# Altium footprint library E 二极管.PcbLib: 24 footprints (part 1 of 2)
Each footprint in its own frame and in the unit in brackets; x right, y up, seen from the top. Pads: shape width x height; smd on the part's side, far side on the other; paste and mask are expansions set on the pad; w line width, h text height; cw(c..) or ccw(c..) is an arc to the next point about the centre after c.
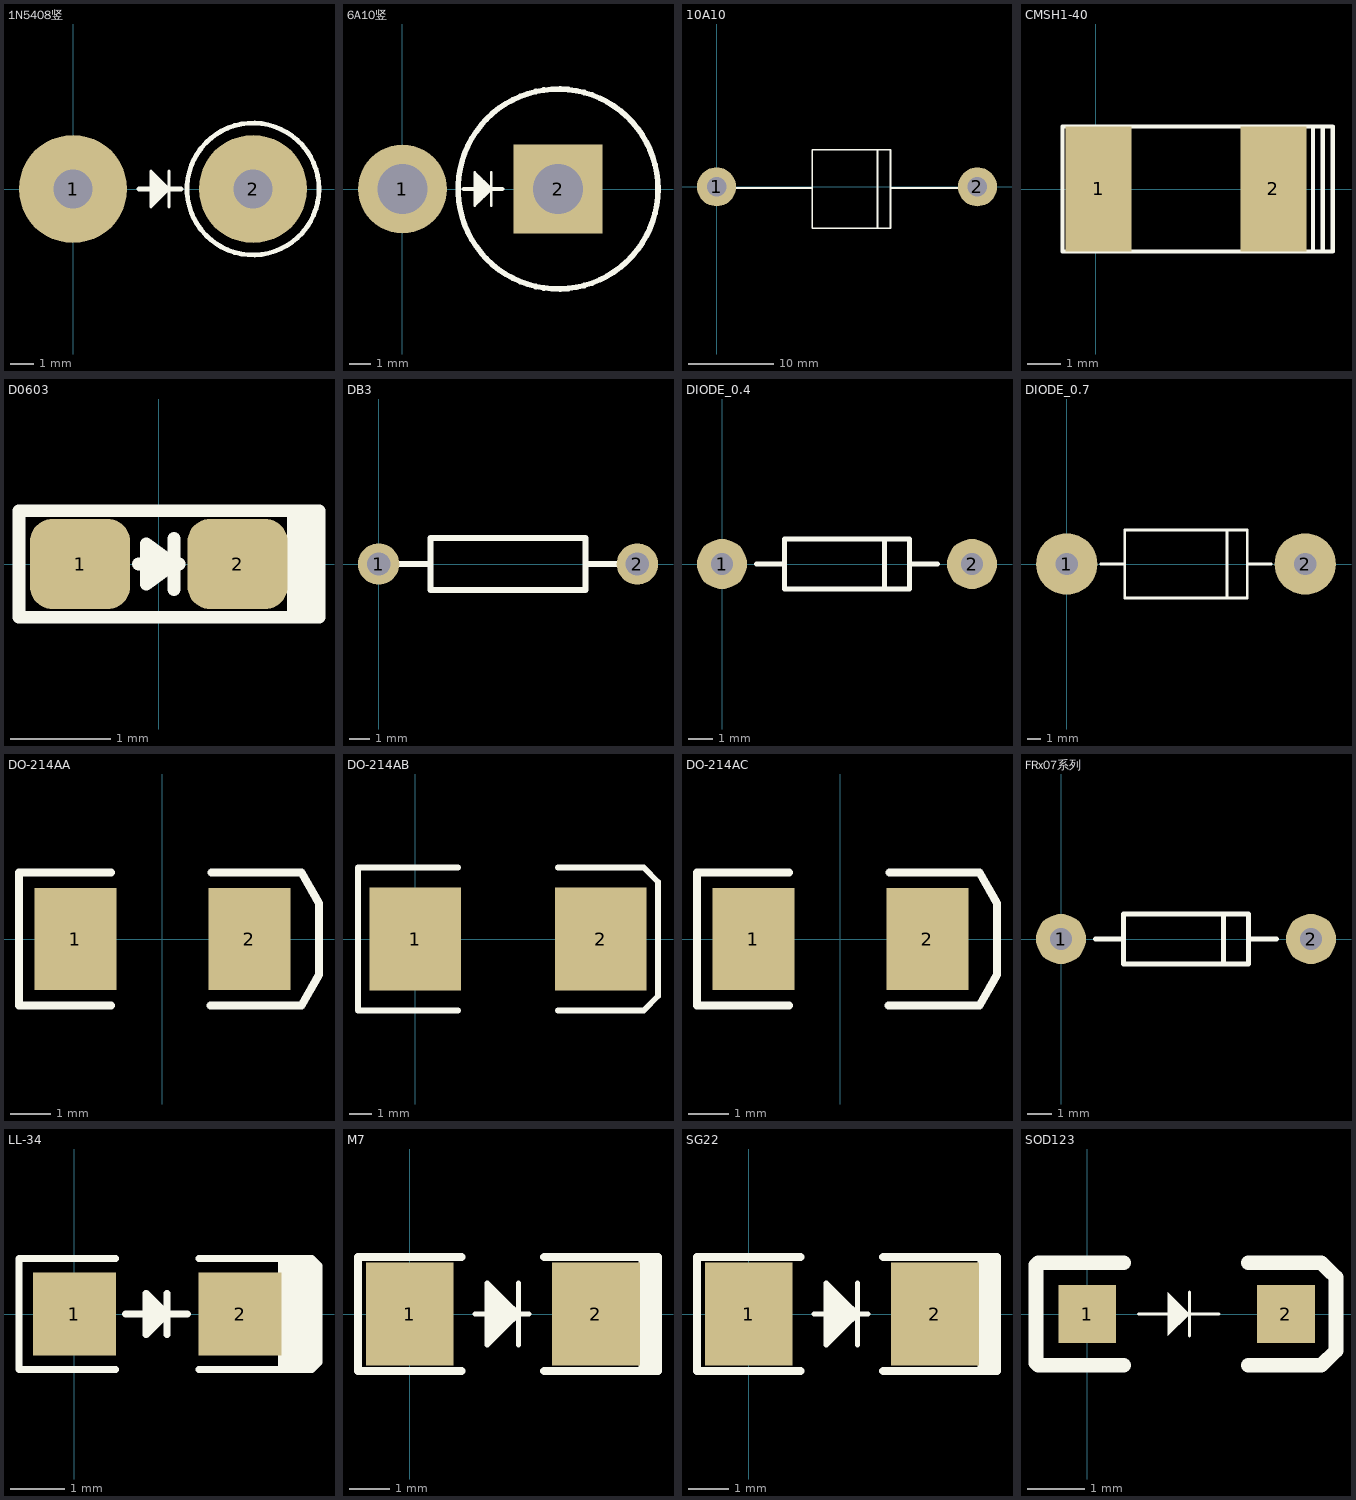
[diagram p0: the footprints below, top view; thin cyan lines are the x and y axes]

## 1N5408竖 [mil]
pads (2):
  round 180 hole 65: 1(0,0) 2(300,0)
Top Overlay:
  circle w8: c300,0 r110
  lines w5: 130,-22 138,-22 ; 130,-18 142,-18 ; 130,-14 146,-14 ; 130,-10 150,-10 ; 130,-6 153.99,-6 ; 130,6 153.99,6 ; 130,10 150,10 ; 130,14 146,14 ; 130,18 142,18 ; 130,22 138,22 ; 160,-30 160,30 ; 153.99,-6 154,-5.98 ; 153.99,6 154,5.98 ; 130,-30 130,30 160,0 130,-30
  lines w8: 110,0 180,0

## 6A10竖 [mil] "二极管"
height 68.9
pads (2):
  round 160 hole 90: 1(0,0)
  rect 160x160 hole 90: 2(280,0)
Top Overlay:
  circle w10: c280,0 r180
  lines w5: 130,-22 138,-22 ; 130,-18 142,-18 ; 130,-14 146,-14 ; 130,-10 150,-10 ; 130,-6 153.99,-6 ; 130,6 153.99,6 ; 130,10 150,10 ; 130,14 146,14 ; 130,18 142,18 ; 130,22 138,22 ; 160,-30 160,30 ; 153.99,-6 154,-5.98 ; 153.99,6 154,5.98 ; 130,-30 130,30 160,0 130,-30
  lines w8: 110,0 180,0

## 10A10 [mil] "二极管"
height 62.99
pads (2):
  round 180 hole 90: 1(0,0) 2(1200,0)
Top Overlay:
  lines w8: 80,-5 440,-5 ; 740,-185 740,170 ; 805,-5 1165,-5 ; 440,-190 800,-190 800,170 440,170 440,-190

## CMSH1-40 [mm]
pads (2):
  rect 2x3.8 smd: 1(0.088,0.005) 2(5.388,0.005)
Top Overlay:
  lines w0.127: 6.588,-1.895 6.588,1.905 ; 6.588,-1.895 -1.012,-1.895 -1.012,1.905 6.588,1.905 ; 6.588,-1.895 6.888,-1.895 ; 6.588,1.905 6.888,1.905 ; 6.888,-1.895 6.888,1.905 ; 6.888,-1.895 7.188,-1.895 7.188,1.905 6.888,1.905

## D0603 [mm] "Chip DIODE; Body 1.6 x 0.8 mm (LxW typ)"
height 0.6
pads (2):
  rrect50% 1x0.9 smd: 1(-0.787,0) 2(0.787,0)
Top Overlay:
  lines w0.127: -0.203,0 0.203,0 ; -0.025,-0.102 -0.025,0.127 ; 0.152,-0.254 0.152,0.254 ; 1.346,-0.533 1.346,0.533 ; 1.397,-0.533 1.397,0.533 ; 1.524,-0.533 1.524,0.533 ; -1.397,-0.533 -1.397,0.533 1.6,0.533 1.6,-0.533 -1.397,-0.533 ; -0.127,-0.203 -0.127,0.203 0.152,0 -0.127,-0.203

## DB3 [mil] "双向二极管"
pads (2):
  round 80 hole 45: 1(0,0) 2(500,0)
Top Overlay:
  lines w12: 40,0 100,0 ; 400,0 460,0 ; 100,-50 100,50 400,50 400,-50 100,-50

## DIODE_0.4 [mil] "二极管"
height 220.47
pads (2):
  round 80 hole 35: 1(0,0) 2(400,0)
Top Overlay:
  lines w8: 55,0 100,0 ; 260,-40 260,40 ; 300,0 345,0 ; 100,-40 300,-40 300,40 100,40 100,-40

## DIODE_0.7 [mil]
pads (2):
  round 180 hole 65: 1(0,0) 2(700,0)
Top Overlay:
  lines w8: 100,0 170,0 ; 470,-100 470,100 ; 530,0 600,0 ; 170,-100 170,100 530,100 530,-100 170,-100

## DO-214AA [mil] "DIODE"
height 905.51
pads (2):
  rect 80x100 smd: 1(-85,0) 2(85,0)
Top Overlay:
  lines w8: -50,-65 -140,-65 -140,65 -50,65 ; 47,-65 136,-65 153,-35 153,35 136,65 48,65

## DO-214AB [mil] "贴片二极管2.5A/1000V"
pads (2):
  rect 160x180 smd: 1(0,0) 2(325,0)
Top Overlay:
  lines w10: 75,-125 -100,-125 -100,125 75,125 ; 250,-125 400,-125 425,-100 425,100 400,125 250,125

## DO-214AC [mil] "DIODE"
height 905.51
pads (2):
  rect 80x100 smd: 1(-85,0) 2(85,0)
Top Overlay:
  lines w8: -50,-65 -140,-65 -140,65 -50,65 ; 47,-65 136,-65 153,-35 153,35 136,65 48,65

## FRx07系列 [mil] "二极管"
height 220.47
pads (2):
  round 80 hole 35: 1(0,0) 2(400,0)
Top Overlay:
  lines w8: 55,0 100,0 ; 260,-40 260,40 ; 300,0 345,0 ; 100,-40 300,-40 300,40 100,40 100,-40

## LL-34 [mil] "贴片二极管"
pads (2):
  rect 60x60 smd: 1(0,0) 2(120,0)
Top Overlay:
  lines w5: 30,-40 -40,-40 -40,40 30,40 ; 37,0 82,0 ; 57,-10 57,10 ; 62,-5 62,5 ; 67,-15 67,15 ; 90,-40 172,-40 ; 90,40 172,40 ; 150,-40 150,40 ; 154,-40 154,40 ; 158,-40 158,40 ; 163,-40 163,40 ; 167,-40 167,40 ; 172,-40 177,-35 177,35 172,40 ; 172,-40 172,40 ; 52,-15 52,15 67,0 52,-15

## M7 [mil]
pads (2):
  rect 85x100 smd: 1(0,0) 2(180,0)
Top Overlay:
  lines w5: 62.94,0 115,0 ; 80,-25 80,25 ; 85,-20 85,20 ; 90,-15 90,15 ; 95,-10 95,10 ; 100,-5 100,5 ; 105,-30 105,30 ; 75,-30 105,0 75,30 75,-30
  lines w8: 50,-55 -50,-55 -50,55 50,55 ; 130,-55 240,-55 240,55 130,55 ; 225,-55 225,55 ; 230,-55 230,55 ; 235,-55 235,55

## SG22 [mil]
pads (2):
  rect 85x100 smd: 1(0,0) 2(180,0)
Top Overlay:
  lines w5: 62.94,0 115,0 ; 80,-25 80,25 ; 85,-20 85,20 ; 90,-15 90,15 ; 95,-10 95,10 ; 100,-5 100,5 ; 105,-30 105,30 ; 75,-30 105,0 75,30 75,-30
  lines w8: 50,-55 -50,-55 -50,55 50,55 ; 130,-55 240,-55 240,55 130,55 ; 225,-55 225,55 ; 230,-55 230,55 ; 235,-55 235,55

## SOD123 [mm]
pads (2):
  rect 1x1 smd: 1(0,0) 2(3.45,0)
Top Overlay:
  region: 1.397,0.381 1.397,-0.381 1.778,0
  lines w0.05: 0.889,0 1.397,0 ; 1.778,-0.381 1.778,0.381 ; 1.778,0 2.286,0
  lines w0.254: 0.635,-0.889 -0.85,-0.889 -0.889,-0.85 -0.889,0.85 -0.85,0.889 0.635,0.889 ; 2.794,-0.889 4.064,-0.889 4.318,-0.635 4.318,0.508 4.318,0.635 4.191,0.762 4.064,0.889 2.794,0.889